# EAGLE library part LEVELSHIFTER (library partes)
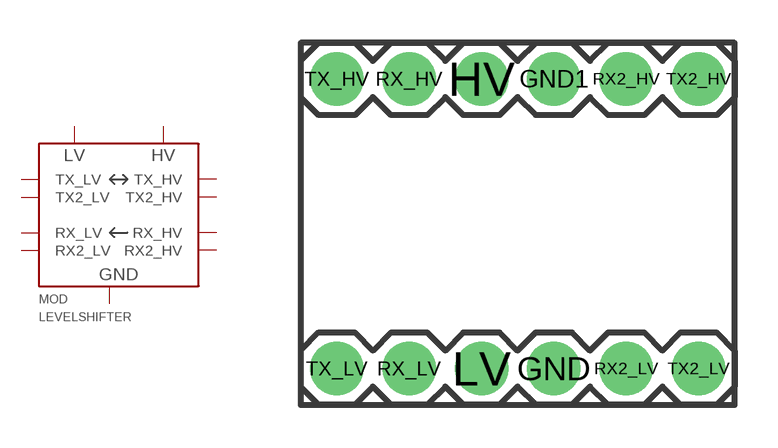
[diagram p0: symbol with the pads of LEVELSHIFTER; footprint LEVELSHIFTER]

Designator prefix MOD

## LEVELSHIFTER  [LEVELSHIFTER]
GND  GND
GND1  GND
HV  HV  pwr
LV  LV  pwr
RX2_HV  RX2_HV  in
RX2_LV  RX2_LV  out
RX_HV  RX_HV  in
RX_LV  RX_LV  out
TX2_HV  TX2_HV
TX2_LV  TX2_LV
TX_HV  TX_HV
TX_LV  TX_LV

## Footprint LEVELSHIFTER (pad centres in mm)
drill 1.016 pad 1.88: GND 7.62,0; GND1 7.62,10.16; HV 5.08,10.16; LV 5.08,0; RX2_HV 10.16,10.16; RX2_LV 10.16,0; RX_HV 2.54,10.16; RX_LV 2.54,0; TX2_HV 12.7,10.16; TX2_LV 12.7,0; TX_HV 0,10.16; TX_LV 0,0